# Altium footprint library Transistors, Diodes, etc.PcbLib: 33 footprints (part 3 of 3)
Each footprint in its own frame and in the unit in brackets; x right, y up, seen from the top. Pads: shape width x height; smd on the part's side, far side on the other; paste and mask are expansions set on the pad; w line width, h text height; cw(c..) or ccw(c..) is an arc to the next point about the centre after c.
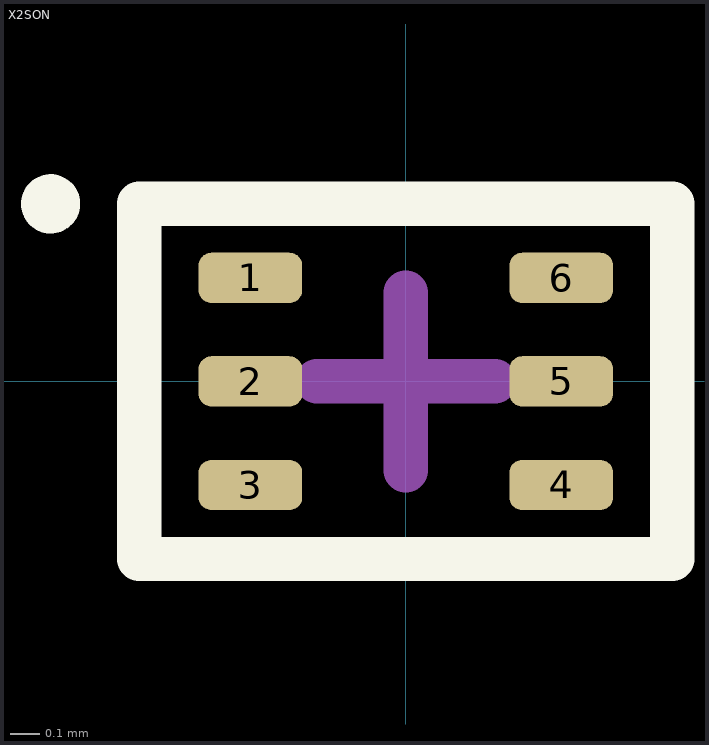
[diagram p2: the footprint, top view; thin cyan lines are the x and y axes]

## X2SON [mm]
pads (6):
  rrect50% 0.35x0.17 smd mask+0.07: 1(-0.525,0.35) 2(-0.525,0) 3(-0.525,-0.35) 4(0.525,-0.35) 5(0.525,0) 6(0.525,0.35)
Top Overlay:
  circle w0.1: c-1.2,0.6 r0.05
  lines w0.15: -0.9,-0.6 0.9,-0.6 0.9,0.6 -0.9,0.6 -0.9,-0.6
Mechanical 15:
  lines w0.15: -0.3,0 0.3,0 ; 0,-0.3 0,0.3
3D body "User Library-X2SON6_-_SOT1202-2.step": height 0.32, standoff 0, extent -0.5,-0.5 0.5,0.5